# Altium footprint library TO220.PcbLib: 1 footprints
Each footprint in its own frame and in the unit in brackets; x right, y up, seen from the top. Pads: shape width x height; smd on the part's side, far side on the other; paste and mask are expansions set on the pad; w line width, h text height; cw(c..) or ccw(c..) is an arc to the next point about the centre after c.
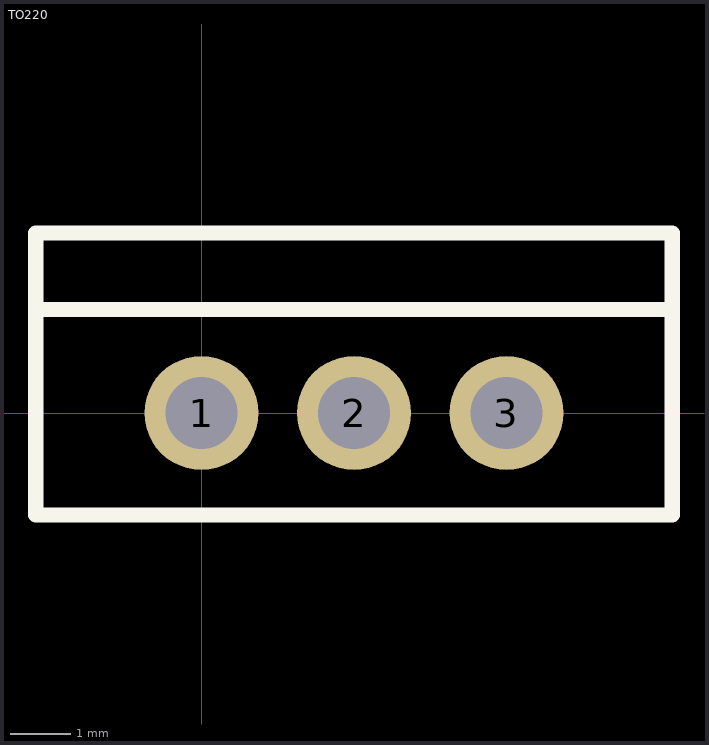
[diagram p0: the footprint, top view; thin cyan lines are the x and y axes]

## TO220 [mm]
height 19.55
pads (3):
  round 1.9 hole 1.2: 1(0,0) 2(2.54,0) 3(5.08,0)
Top Overlay:
  lines w0.254: -2.76,1.725 7.84,1.725 ; -2.76,-1.7 7.84,-1.7 7.84,3 -2.76,3 -2.76,-1.7
3D body: height 20.35, standoff -8.98, extent -2.785,-1.84 7.875,2.99